# EAGLE library part DDC101U (library TI)
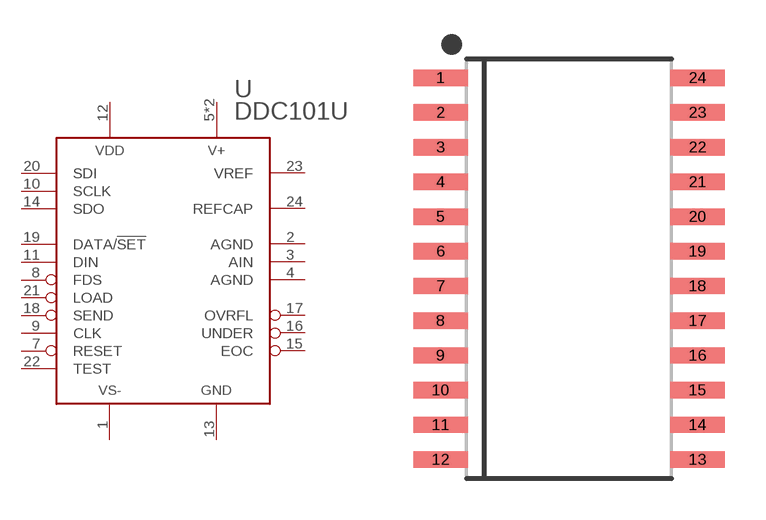
[diagram p19: symbol with the pads of SOIC-24-W; footprint SOIC-24-W]

Designator prefix U

## DDC101U  [SOIC-24-W]
1  VS-
2  AGND
3  AIN
4  AGND
5  VS+
6  VS+
7  RESET
8  FDS
9  CLK
10  SCLK
11  DIN
12  VDD
13  GND
14  SDO
15  EOC
16  UNDER
17  OVRFL
18  SEND
19  DATA/!SET
20  SDI
21  LOAD
22  TEST
23  VREF
24  REFCAP

## Footprint SOIC-24-W (pad centres in mm)
smd 2 x 0.6: 1 -4.7,6.985; 2 -4.7,5.715; 3 -4.7,4.445; 4 -4.7,3.175; 5 -4.7,1.905; 6 -4.7,0.635; 7 -4.7,-0.635; 8 -4.7,-1.905; 9 -4.7,-3.175; 10 -4.7,-4.445; 11 -4.7,-5.715; 12 -4.7,-6.985; 13 4.7,-6.985; 14 4.7,-5.715; 15 4.7,-4.445; 16 4.7,-3.175; 17 4.7,-1.905; 18 4.7,-0.635; 19 4.7,0.635; 20 4.7,1.905; 21 4.7,3.175; 22 4.7,4.445; 23 4.7,5.715; 24 4.7,6.985